# EAGLE library part 1X6 (library Pinhead)
Ph6
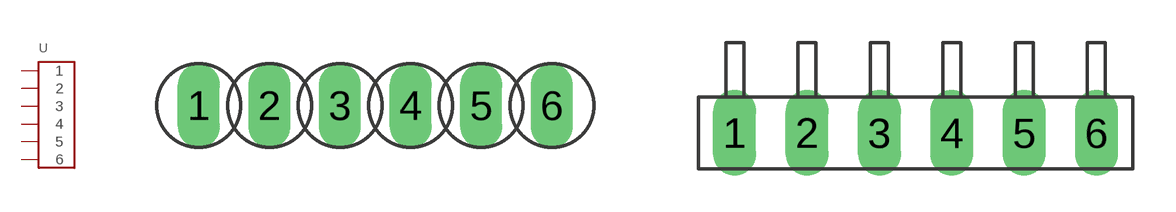
[diagram p0: symbol with the pads of 1X6; footprints 1X6, 1X6W]

Designator prefix -

## 1X6  [1X6]
1  1
2  2
3  3
4  4
5  5
6  6

## 1X61X6W  [1X6W]
Pads as for 1X6

## Footprint 1X6 (pad centres in mm)
Ph6
drill 1 long: 1 -6.35,0; 2 -3.81,0; 3 -1.27,0; 4 1.27,0; 5 3.81,0; 6 6.35,0

## Footprint 1X6W (pad centres in mm)
Pinhead6pol-gewinkelt
drill 1 long: 1 -6.35,0; 2 -3.81,0; 3 -1.27,0; 4 1.27,0; 5 3.81,0; 6 6.35,0